# Altium schematic symbol library PFC_Stage.SchLib: 33 symbols
Pins are listed as number, name and electrical type; pins without a type are passive.

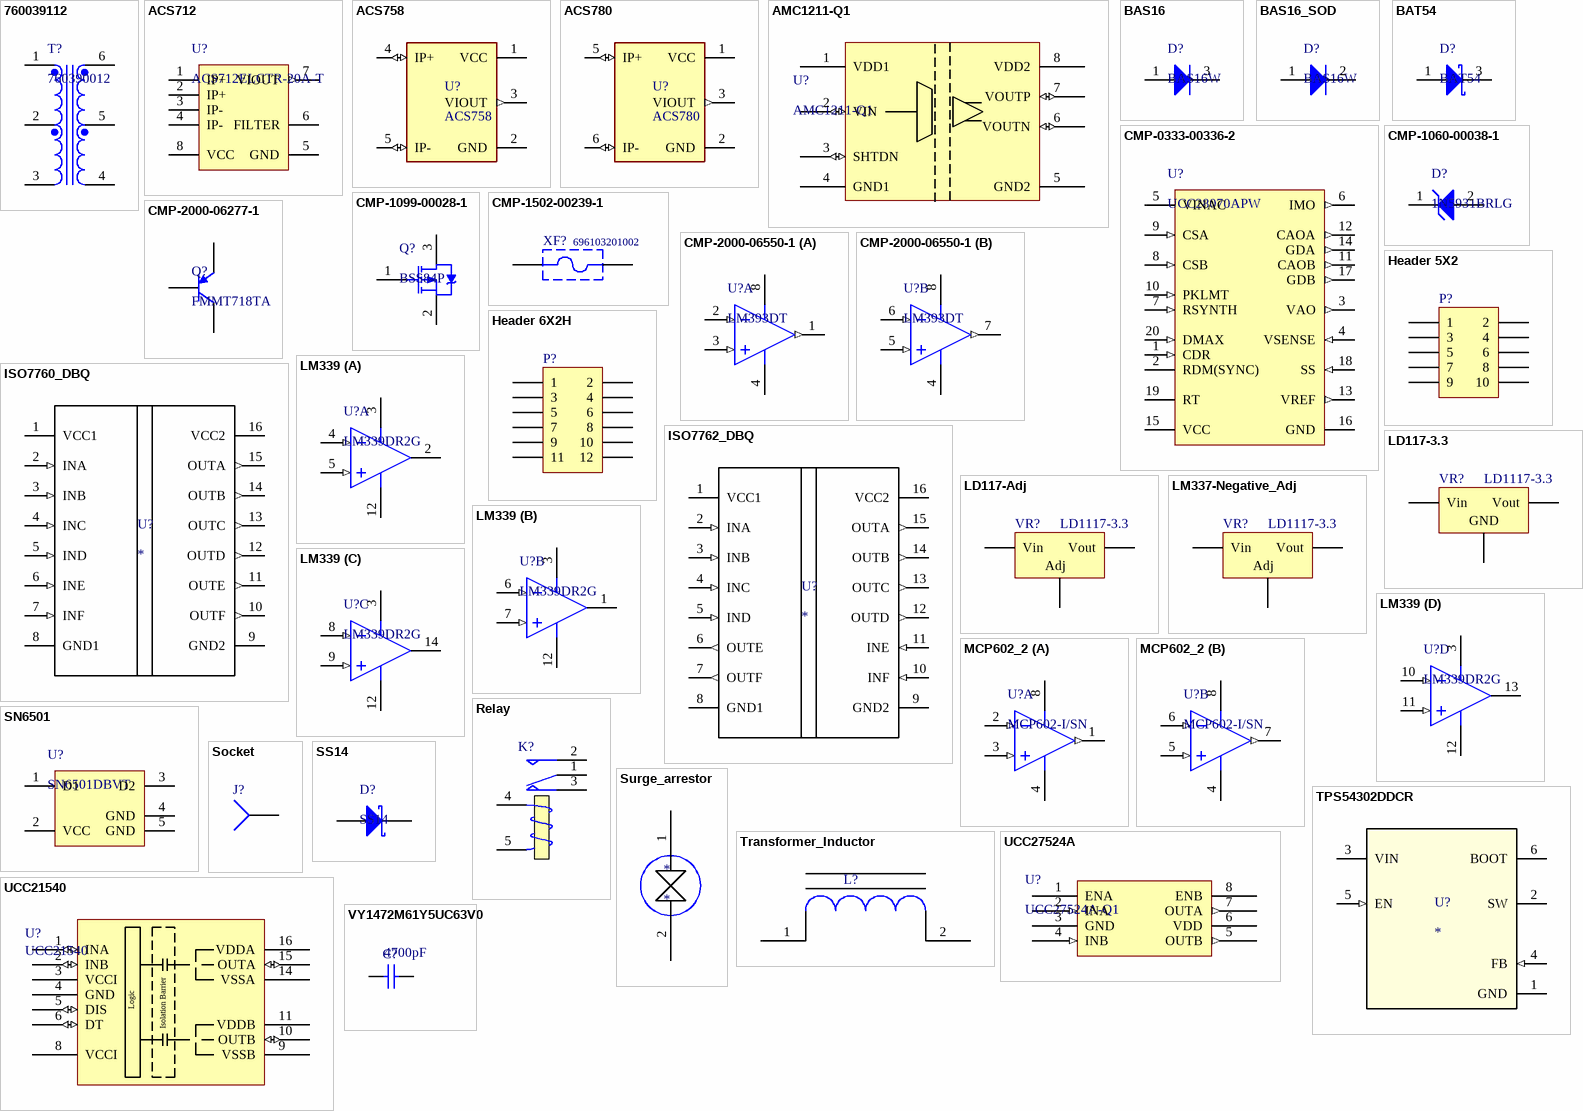
[diagram p0: symbols 760039112 to VY1472M61Y5UC63V0]

## 760039112
designator T?, comment 760390012
Transformer, 150 mA, -40 to 125 degC, 6-Pin SMD, RoHS, Tape and Reel; Manufacturer: Wuerth Elektronik; Mounting Technology: SurfaceMount; Manufacturer URL: https://www.we-online.com/; Datasheet Version: Rev. 6C, 06/2013; Datasheet URL: https://datasheet.ciiva.com/12335/760390012-221167-12335394.pdf; Package Description: 6-Pin Surface Mount Device, Body 7.14 x 6.73 mm, Pitch 2.54 mm; Package Reference: 7060390012-6
footprint WE-760390012-6_V (SMD, 6-Leads, Body 7.14x6.73mm, Pitch 2.54mm)
pins: 1, 2, 3, 4, 5, 6

## ACS712
designator U?, comment ACS712ELCTR-20A-T
Linear Current Sensor IC, 4.5 to 5.5 V Supply Voltage, 10 mA Supply Current, -40 to 85 degC, 8-Pin SOIC (LC), RoHS, Tape and Reel; Manufacturer: Allegro Microsystems; CLOAD: 10 nF Max.; ICC: 10 mA; F: 80 kHz; RLOAD: 4.7 kOhm Min.; Optimized Accuracy Range: +/- 20 A; TR: 3.5 us; Sensitivity Sens: 100 mV/A Typ.; Operating Temperature Range: -40 to 85 degC; ComponentLink2URL: http://www.allegromicro.com/~/media/Files/Datasheets/ACS712-Datasheet.ashx; ComponentLink1Description: Manufacturer URL; VCC: 4.5 to 5.5 V; Mounting Technology: Surface Mount; DatasheetVersion: Rev. 15; ComponentLink2Description: Datasheet; ComponentLink1URL: http://www.allegromicro.com/; PackageDescription: 8-Pin SOIC, Body 4.9 x 3.9 mm, Pitch 1.27 mm; PackageReference: LC-8; RoHS: TRUE; Packing: Tape and Reel; PartNumber: ACS712ELCTR-20A-T
pins: 1 IP+ "Terminals for current being sampled; fused internally", 2 IP+ "Terminals for current being sampled; fused internally", 3 IP- "Terminals for current being sampled; fused internally", 4 IP- "Terminals for current being sampled; fused internally", 5 GND (power) "Signal ground terminal", 6 FILTER "Terminal for external capacitor that sets bandwidth", 7 VIOUT (out) "Analog output signal", 8 VCC (power) "Device power supply terminal"

## ACS758
designator U?
Current Sensor 50A 1 Channel Hall Effect, Open Loop Unidirectional 5-CB Formed Leads, PFF; MF: Allegro MicroSystems LLC; Package: 5-CB-5 Allegro MicroSystems LLC; MP: ACS758; Availability: Unavailable; Price: None; Value: *; SnapEDA_Link: https://www.snapeda.com/parts/ACS758/Allegro%20MicroSystems%20LLC/view-part/226237/?ref=snap
footprint XDCR_ACS758
pins: 1 VCC (power), 2 GND (power), 3 VIOUT (out), 4 IP+ (io), 5 IP- (io)

## ACS780
designator U?
Current Sensor 50A 1 Channel Hall Effect, Open Loop Unidirectional 5-CB Formed Leads, PFF; MP: ACS758; MF: Allegro MicroSystems LLC; Package: 5-CB-5 Allegro MicroSystems LLC; Availability: Unavailable; Price: None; Value: *; SnapEDA_Link: https://www.snapeda.com/parts/ACS758/Allegro%20MicroSystems%20LLC/view-part/226237/?ref=snap
footprint *XDCR_ACS781LLRTR-100U-T
pins: 1 VCC (power), 2 GND (power), 3 VIOUT (out), 5 IP+ (io), 6 IP- (io)

## AMC1211-Q1
designator U?
footprint SOIC127P570X175_HS-9N - No Thermal (SOIC, 8-Leads, Body 4.91x3.90mm, Pitch 1.27mm, Thermal Pad 3.00x3.00mm, IPC Medium Density)
pins: 1 VDD1 (power), 2 VIN (io), 3 SHTDN (io), 4 GND1 (power), 5 GND2 (power), 6 VOUTN (io), 7 VOUTP (io), 8 VDD2 (power)

## BAS16
designator D?, comment BAS16W
Silicon Switching Diode, SOT323, Reel, Green; Manufacturer: Infineon; IR (max): 100Â nA; Configuration: Single; VBR (min): 85Â V; VR (max): 80Â V; trr (max): 4Â ns; Green: TRUE; VF (max): 1.25Â V; IF (max): 250Â mA; Mounting Technology: Surface Mount; PackageReference: SOT323; ComponentLink2URL: http://www.infineon.com/dgdl/bas16series.pdf?folderId=db3a30431400ef6801141b5844e103ea&fileId=db3a30431400ef6801141b93811b03ff; Halogen-free: TRUE; ComponentLink2Description: Datasheet; PartNumber: BAS16W; ComponentLink1Description: Manufacturer URL; ComponentLink3URL: http://www.infineon.com/dgdl/SOT323-Package_Overview.pdf?folderId=db3a30431936bc4b0119533e1dcb3c92&fileId=db3a30431936bc4b011953495f283cb1; ComponentLink1URL: http://www.infineon.com/; PackageDescription: 3-Pin Small Outline Transistor Package, 1.25 x 2 mm Body, 0.65 mm Pitch; ComponentLink3Description: Package Specification
footprint SOT95P278X110-3N (SOT23, 3-Leads, Body 2.90x2.78mm, Pitch 0.95mm, IPC Medium Density)
pins: 1 A, 3 K

## BAS16_SOD
designator D?, comment BAS16W
Silicon Switching Diode, SOT323, Reel, Green; Manufacturer: Infineon; IR (max): 100Â nA; Configuration: Single; VBR (min): 85Â V; VR (max): 80Â V; trr (max): 4Â ns; Green: TRUE; VF (max): 1.25Â V; IF (max): 250Â mA; Mounting Technology: Surface Mount; PackageReference: SOT323; ComponentLink2URL: http://www.infineon.com/dgdl/bas16series.pdf?folderId=db3a30431400ef6801141b5844e103ea&fileId=db3a30431400ef6801141b93811b03ff; Halogen-free: TRUE; ComponentLink2Description: Datasheet; PartNumber: BAS16W; ComponentLink1Description: Manufacturer URL; ComponentLink3URL: http://www.infineon.com/dgdl/SOT323-Package_Overview.pdf?folderId=db3a30431936bc4b0119533e1dcb3c92&fileId=db3a30431936bc4b011953495f283cb1; ComponentLink1URL: http://www.infineon.com/; PackageDescription: 3-Pin Small Outline Transistor Package, 1.25 x 2 mm Body, 0.65 mm Pitch; ComponentLink3Description: Package Specification
footprint SODFL250X110-2N (SODFL, 2-Leads, Body 1.30x2.50mm, IPC Medium Density)
pins: 1 A, 2 K

## BAT54
designator D?
Silicon Switching Diode, SOT323, Reel, Green; PartNumber: BAS16W; Manufacturer: Infineon; IR (max): 100Â nA; Configuration: Single; VBR (min): 85Â V; VR (max): 80Â V; trr (max): 4Â ns; Green: TRUE; VF (max): 1.25Â V; IF (max): 250Â mA; Mounting Technology: Surface Mount; PackageReference: SOT323; ComponentLink2URL: http://www.infineon.com/dgdl/bas16series.pdf?folderId=db3a30431400ef6801141b5844e103ea&fileId=db3a30431400ef6801141b93811b03ff; Halogen-free: TRUE; ComponentLink2Description: Datasheet; ComponentLink1Description: Manufacturer URL; ComponentLink3URL: http://www.infineon.com/dgdl/SOT323-Package_Overview.pdf?folderId=db3a30431936bc4b0119533e1dcb3c92&fileId=db3a30431936bc4b011953495f283cb1; ComponentLink1URL: http://www.infineon.com/; PackageDescription: 3-Pin Small Outline Transistor Package, 1.25 x 2 mm Body, 0.65 mm Pitch; ComponentLink3Description: Package Specification
footprint SOT95P278X110-3N (SOT23, 3-Leads, Body 2.90x2.78mm, Pitch 0.95mm, IPC Medium Density)
pins: 1 A, 3 K

## CMP-0333-00336-2
designator U?, comment UCC28070APW
Two-Phase Interleaved CCM PFC Controller with Extended Frequency Range (10 kHz to 300 kHz), 21 V, 20 mA Startup Current, -40 to 125 degC, 20-pin TSSOP (PW), Green (RoHS & no Sb/Br); Manufacturer: Texas Instruments; UVLO Thresholds On/Off(V): 10.2/9.2; Practical Operating Frequency(Max)(MHz): 0.3; Vref(V): 6; Average Current Mode: TRUE; Operating Supply(Max)(V): 21; Duty Cycle(Max)(%): 99; Rating: Catalog; Vref tol(%): 3; Operating Supply Current(mA): 20; PackageReference: PW0020A; PartNumber: UCC28070APW; ComponentLink1URL: http://www.ti.com/general/docs/lit/getliterature.tsp?genericPartNumber=UCC28070A&fileType=pdf; Eco-Plan: Green (RoHS & no Sb/Br); Mounting Technology: Surface Mount; PackageVersion: revG, Feb-2011; ComponentLink1Description: Datasheet; Interleaved: TRUE; Code_JEDEC: MO-153; > 750W Applications: TRUE; PackageDescription: 20-Pin Plastic Thin Small Outline Package 6.5 x 4.4 mm Body ,0.65 mm Pitch; Startup Current(mA): 20; OVP: TRUE; DatasheetVersion: SLUSAW0
footprint TSOP65P640X120_HS-21N (TSOP, 20-Leads, Body 6.50x4.40mm, Pitch 0.65mm, Thermal Pad 5.00x2.00mm, IPC Medium Density)
pins: 1 CDR (in) "Dither Rate Capacitor. Frequency-dithering timing pin.An external capacitor to GND programs the rate fo oscillator dither.Connect the CDR pin to the VREF pin to disable dithering.", 2 RDM(SYNC) "Dither Magnitude Resistor. Frequency-dithering magnitude and external synchronization pin. An external resistor to GND programs the magnitude of oscillator frequency dither.When frequency dithering is disabled (CDR > 5 (See Datasheet)", 3 VAO (out) "Voltage Amplifier Output. Output of transconductance voltage error amplifier. Internally connected to Multiplier input and Zero-Power comparator. Connect the voltage regulation loop compensation components between this pin (See Datasheet)", 4 VSENSE (in) "Output Voltage Sense. Internally connected to the inverting input of the transconductance voltage error amplifier in addition to the positive terminal of the Current Synthesis difference amplifer.Also connected to the (See Datasheet)", 5 VINAC (power) "Scaled AC Line Input Voltage. Internally connected to the Multiplier and negative terminal of the Current Synthesis difference amplifier. Connect a resistor-divider network between VIN, VINAC, and GND identical to the PFC (See Datasheet)", 6 IMO (out) "Multiplier Current Output. Connect a resistor between this pin and GND to set the multiplier gain.", 7 RSYNTH (in) "Current Synthesis Down-Slope Programming. Connect a resistor between this pin and GND to set the magnitude of the current synthesizer down-slope. Connecting RSYNTH to VREF will disable current synthesis and connect CSA and (See Datasheet)", 8 CSB (in) "Phase B Current Sense Input During the on-time of GDB,CSB is internally connected to the inverting input of Phase B'S current amplifier through the current synthesis stage.", 9 CSA (in) "Phase A Current Sense Input During the on-time of GDA,CSA is internally connected to the inverting input of Phase A'S current amplifier through the current synthesis stage.", 10 PKLMT (in) "Peak Current Limit Programming. Connect a resistor-divider network between VREF and this pin to set the voltage threshold of the cycle-by-cycle peak current limiting comparators. Allows adjustment for desired deltaILB.", 11 CAOB (out) "Phase B Current Amplifier Output. Output of phase B’s transconductance current amplifier.Internally connected to the inverting input of phase B's PWM comparator for trailing-edge modulation .Connect the current regulation (See Datasheet)", 12 CAOA (out) "Phase A Current Amplifier Output. Output of phase A’s transconductance current amplifier.Internally connected to the inverting input of phase A's PWM comparator for trailing-edge modulation .Connect the current regulation (See Datasheet)", 13 VREF (out) "6-V Reference Voltage and Internal Bias Voltage.Connect a 0.1-uF ceramic bypass capacitor as close as possible to this pin and GND.", 14 GDA (out) "Phase A’s Gate Drive. This limited-current output is intended to connect to a separate gate-drive  device suitable for driving the Phase A switching component(s). The output voltage is typically clamped to 13.5 V.", 15 VCC (power) "Bias Voltage Input. Connect a 0.1-uF ceramic bypass capacitor as close as possible to this pin and GND.", 16 GND (power) "Device Ground Reference. Connect all compensation and programming resistor and capacitor networks to this pin. Connect this pin to the system through a separate trace for high-current noise isolation.", 17 GDB (out) "Phase B’s Gate Drive. This limited-current output is intended to connect to a separate gate- drivedevice suitable for driving the Phase B switching component(s). The output voltage is typically clamped to 13.5 V.", 18 SS (in) "Soft-Start and External Fault Interface. Connect a capacitor to GND on this pin to set the softstart slew rate based on an internally-fixed 10-uA current source. The regulation reference voltage for VSENSE is clamped to VSS (See Datasheet)", 19 RT "Timing Resistor.Oscillator frequency programming pin. A resistor to GND sets the running frequency of the internal oscillator.", 20 DMAX (in) "Maximum Duty-Cycle Resistor.Maximum PWM duty-cycle programming pin.A resister to GND sets the PWM maximum duty-cycle based on the ratio of RDMX/RRT."

## CMP-1060-00038-1
designator D?, comment 1N5931BRLG
3 W Zener Voltage Regulator, 2-Pin Axial_Lead, Pb-Free, Tape and Reel; Manufacturer: On Semiconductor; VZ Typ (V): 18; DatasheetVersion: Rev. 5; PackageVersion: Rev. U, 02/2005; ComponentLink1URL: http://www.onsemi.com/; PartNumber: 1N5931BRLG; ComponentLink3URL: http://www.onsemi.cn/pub_link/Collateral/59-10.PDF; RoHS: Pb-Free; Packing: Tape and Reel; ComponentLink3Description: Package Specification; ComponentLink1Description: Manufacturer URL; PackageReference: AXIAL_LEAD-2-59-10; PackageDescription: 2-Pin, Axial Lead, Diameter 2.35 mm; ComponentLink2URL: http://www.onsemi.cn/pub_link/Collateral/1N5913B-D.PDF; ComponentLink2Description: Datasheet; Mounting Technology: Through Hole
footprint ONSC-AXIAL_LEAD-2-59-10_P (AXIAL, 2-Leads, Diameter 2.35mm)
pins: 1 K, 2 A

## CMP-1099-00028-1
designator Q?, comment BSS84P
P-Channel SIPMOS Small-Signal-Transistor, -60 V VDS, -0.17 A ID, -55 to 150 degC, PG-SOT23, Reel, Green; Manufacturer: Infineon; VGS(th) (max): -2Â V; VGS(th) (min): -1Â V; VDS (max): -60Â V; Rth: 350Â K/W; Pto t (max): 0.36Â W; ID (max): -0.17Â A; IDpuls (max): -0.68Â A; RDS (on) (max) (@4.5V): 12,000Â mOhm; QG: 1Â nC; Green: TRUE; RDS (on) (max): 8,000Â mOhm; ComponentLink3URL: http://www.infineon.com/dgdl/SOT23-Package_Overview.pdf?folderId=db3a30431936bc4b0119532290053c66&fileId=db3a30431936bc4b0119533468123c85; ComponentLink3Description: Package Specification; Packing: Reel; PartNumber: BSS84P; ComponentLink2Description: Datasheet; Mounting Technology: Surface Mount; ComponentLink2URL: http://www.infineon.com/dgdl/BSS84P_Rev2.7%5B1%5D.pdf?folderId=db3a304314dca38901154a72e3951a65&fileId=db3a304330f68606013118ac7a9b4549; PackageReference: PG-SOT23; ComponentLink1URL: http://www.infineon.com/; PackageVersion: Apr-08; ComponentLink1Description: Manufacturer URL; PackageDescription: 3-Pin Small Outline Transistor Package, 2.9 x 1.3 mm Body, 0.95 mm Pitch; Halogen-free: TRUE; DatasheetVersion: Rev. 2.7
footprint SOT95P278X110-3N (SOT23, 3-Leads, Body 2.90x2.78mm, Pitch 0.95mm, IPC Medium Density)
pins: 1 GATE, 2 SOURCE, 3 DRAIN

## CMP-1502-00239-1
designator XF?, comment 696103201002
WR-FSH Fuse Holder Blocks Fuse Holder Blocks Clip Cover for PCB - THR Version; Manufacturer: Wurth Elektronik; Fuse Size: 5x20mm; Package Reference: 696103201002; Operating Temperature: -30to120degC; Part Number: 696103201002; Packaging: Box; Datasheet URL: https://katalog.we-online.de/em/datasheet/696103201002.pdf; Publisher: WurthElektronik; Mounting Technology: THR; Manufacturer URL: http://www.we-online.de
footprint 696103201002 (FUSEHOLDER BLOCKS - PCB - CLIP COVER - THR)
pins: 1, 2

## CMP-2000-06277-1
designator Q?, comment FMMT718TA
PNP Silicon Low Saturation Transistor, 20 V, -55 to 150 degC, 3-Pin SOT23, RoHS, Tape and Reel; Manufacturer: Diodes Inc; Current Ic Continuous a Max: 1.5A; DC Current Gain hFE: 475; Current Ic hFE: 100mA; No. of Pins: 3; Turn On Time: 40ns; Voltage Vcbo: 20V; SVHC: NoSVHC(18-Jun-2012); Reel Quantity: 3000; Transistor Case Style: SOT-23; No. of Transistors: 1; SMD Marking: 718; Collector Emitter Voltage Vces: 220mV; Turn Off Time: 670ns; Power Dissipation Pd: 625mW; Transition Frequency Typ ft: 180MHz; Device Marking: MT718; Hfe Min: 300; Gain Bandwidth ft Min: 150MHz; Datasheet URL: http://www.diodes.com/_files/datasheets/FMMT718.pdf; Datasheet Version: Rev. 4-2, 10/2012; Termination Type: SMD; Package Description: 3-Pin Small Outline Transistor, Body 2.9 x 1.3 mm, Pitch 0.96 mm; Manufacturer URL: http://www.diodes.com/; Package Reference: SOT23-3; Package / Case: SOT-23; Continuous Collector Current Ic Max: 1.5A; Collector Emitter Voltage V(br)ceo: 20V; Operating Temperature Range: -55°Cto+150°C; Mounting Technology: SurfaceMount; DC Collector Current: 1.5A; Gain Bandwidth ft Typ: 180MHz; Tape Width: 8mm; Power Dissipation Ptot Max: 625mW; Transistor Polarity: PNP
footprint DIOD-SOT23-3_D_V (SOT23, 3-Leads, Body 3x1.40mm, Pitch 0.95mm)
pins: 1 B, 2 E, 3 C

## CMP-2000-06550-1
designator U?, comment LM393DT
Low-Power, Dual-Voltage Comparator, 2 to 36 V, 0 to 70 degC, 8-Pin SOIC (SO), RoHS, Tape and Reel; Manufacturer: STMicroelectronics; Voltage - Supply, Single/Dual (±): 2V~36V,±1V~18V; Current - Input Bias (Max): 0.25µA@5V; Number of Elements: 2; Current - Output (Typ): 18mA@5V; Other Names: 497-1593-2; Voltage - Input Offset (Max): 5mV@30V; Output Type: CMOS,DTL,ECL,MOS,Open-Collector,TTL; EDA / CAD Models: DownloadfromAcceleratedDesigns; Other Related Documents: LM393ViewAllSpecificationsLM393ViewAllSpecifications; Online Catalog: Comparators-2elements; Current - Quiescent (Max): 2.5mA; Standard Package: 2,500; Manufacturer URL: http://www.st.com/; Package Description: 8-Pin Small Outline Integrated Circuit, Body 4.9 x 3.9 mm, Pitch 1.27 mm; Packaging: Tape&Reel(TR); Datasheet Version: Rev. 15, 02/2016; Category: IntegratedCircuits(ICs); Operating Temperature: 0°C~70°C; Mounting Type: SurfaceMount; Supplier Device Package: 8-SO; Datasheet URL: http://www.st.com/content/ccc/resource/technical/document/datasheet/group1/b4/cc/cf/13/18/28/44/f5/CD00000465/files/CD00000465.pdf/jcr:content/translations/en.CD00000465.pdf; Family: Linear-Comparators; Mounting Technology: SurfaceMount; Type: GeneralPurpose; Package Reference: SO-8; Package / Case: 8-SOIC(0.154",3.90mmWidth)
footprint SOIC127P570X175_HS-9N - No Thermal (SOIC, 8-Leads, Body 4.91x3.90mm, Pitch 1.27mm, Thermal Pad 3.00x3.00mm, IPC Medium Density)
pins on every part: 4 VCC- (power), 8 VCC+ (power)
part A pins: 1 OUT1 (out), 2 IN1- (in), 3 IN1+ (in)
part B pins: 5 IN2+ (in), 6 IN2- (in), 7 OUT2 (out)

## Header 5X2
designator P?
Header, 5-Pin, Dual row; LatestRevisionDate: 17-Jul-2002; LatestRevisionNote: Re-released for DXP Platform.; Publisher: Altium Limited
footprint Stackable_5_2 (Pin Header, pitch 2.54 mm, THT, Vertical, dual row, 10p)
pins: 1, 2, 3, 4, 5, 6, 7, 8, 9, 10

## Header 6X2H
designator P?
Header, 6-Pin, Dual row, Right Angle; LatestRevisionDate: 17-Jul-2002; LatestRevisionNote: Re-released for DXP Platform.; Publisher: Altium Limited
footprint Stackable-20mm (Pin Header, pitch 2.54 mm, THT, Vertical, dual row, 12p)
pins: 1, 2, 3, 4, 5, 6, 7, 8, 9, 10, 11, 12

## ISO7760_DBQ
designator U?
No Description Available; Manufacturer: Texas Instruments; PartNumber: ISO7760DBQR; RefDes: RefDes; Type: DEV; Value: Value; Copyright: Copyright (C) 2018 Accelerated Designs. All rights reserved
footprint TSOP65P640X120_HS-21N (TSOP, 20-Leads, Body 6.50x4.40mm, Pitch 0.65mm, Thermal Pad 5.00x2.00mm, IPC Medium Density)
pins: 1 VCC1 (power), 2 INA (in), 3 INB (in), 4 INC (in), 5 IND (in), 6 INE (in), 7 INF (in), 8 GND1 (power), 9 GND2 (power), 10 OUTF (out), 11 OUTE (out), 12 OUTD (out), 13 OUTC (out), 14 OUTB (out), 15 OUTA (out), 16 VCC2 (power)

## ISO7762_DBQ
designator U?
No Description Available; PartNumber: ISO7762DWR; Manufacturer: Texas Instruments; RefDes: RefDes; Type: DEV; Value: Value; Copyright: Copyright (C) 2018 Accelerated Designs. All rights reserved
footprint TSOP65P640X120_HS-21N (TSOP, 20-Leads, Body 6.50x4.40mm, Pitch 0.65mm, Thermal Pad 5.00x2.00mm, IPC Medium Density)
pins: 1 VCC1 (power), 2 INA (in), 3 INB (in), 4 INC (in), 5 IND (in), 6 OUTE (out), 7 OUTF (out), 8 GND1 (power), 9 GND2 (power), 10 INF (in), 11 INE (in), 12 OUTD (out), 13 OUTC (out), 14 OUTB (out), 15 OUTA (out), 16 VCC2 (power)

## LD117-3.3
designator VR?, comment LD1117-3.3
Voltage Regulator; Published: 24-Mar-1999; LatestRevisionDate: 29-May-2009; LatestRevisionNote: IPC-7351 Footprint Added.; PackageReference: D2PAK; Publisher: Altium Limited; PackageDescription: 3-Pin Transistor Outline Package 2.54 mm Pitch, 15.1 mm Lead Span
footprint SOT230P700X180-4N (SOT223, 4-Leads, Body 6.50x7.00mm (avg), Pitch 2.30mm, IPC Medium Density)
pins: 1 GND, 2 Vout, 3 Vin

## LD117-Adj
designator VR?, comment LD1117-3.3
Voltage Regulator; Published: 24-Mar-1999; LatestRevisionDate: 29-May-2009; LatestRevisionNote: IPC-7351 Footprint Added.; PackageReference: D2PAK; Publisher: Altium Limited; PackageDescription: 3-Pin Transistor Outline Package 2.54 mm Pitch, 15.1 mm Lead Span
footprint SOT230P700X180-4N (SOT223, 4-Leads, Body 6.50x7.00mm (avg), Pitch 2.30mm, IPC Medium Density)
pins: 1 Adj, 2 Vout, 3 Vin

## LM337-Negative_Adj
designator VR?, comment LD1117-3.3
Voltage Regulator; Published: 24-Mar-1999; LatestRevisionDate: 29-May-2009; LatestRevisionNote: IPC-7351 Footprint Added.; PackageReference: D2PAK; Publisher: Altium Limited; PackageDescription: 3-Pin Transistor Outline Package 2.54 mm Pitch, 15.1 mm Lead Span
footprint SOT230P700X180-4N (SOT223, 4-Leads, Body 6.50x7.00mm (avg), Pitch 2.30mm, IPC Medium Density)
pins: 1 Adj, 2 Vin, 3 Vout

## LM339
designator U?, comment LM339DR2G
Single Supply Quad Comparators, 0 to 70 degC, 14-Pin SOIC, Pb-Free, Tape and Reel; Manufacturer: On Semiconductor; IO Typ (mA): 16; ComponentLink3URL: http://www.onsemi.com/pub_link/Collateral/751A-03.PDF; RoHS: TRUE; Packing: Tape and Reel; ComponentLink2Description: Datasheet; ComponentLink2URL: http://www.onsemi.com/pub_link/Collateral/LM339-D.PDF; ComponentLink1Description: Manufacturer URL; PackageVersion: Rev. K, 05/2011; DatasheetVersion: Rev. 20; PackageReference: SOIC-14-751A-03; ComponentLink1URL: http://www.onsemi.com/; PartNumber: LM339DR2G; PackageDescription: 14-Pin Small Outline Integrated Circuit, Body 8.65 x 3.9 mm, Pitch 1.27 mm; ComponentLink3Description: Package Specification; Mounting Technology: Surface Mount
footprint ONSC-SOIC-14-751A-03_V (SOIC, 14-Leads, Body 8.75x4mm, Pitch 1.27mm)
pins on every part: 3 VCC (power), 12 GND (power)
part A pins: 2 OUT1 (oc), 4 IN1- (in), 5 IN1+ (in)
part B pins: 1 OUT2 (oc), 6 IN2- (in), 7 IN2+ (in)
part C pins: 8 IN3- (in), 9 IN3+ (in), 14 OUT3 (oc)
part D pins: 10 IN4- (in), 11 IN4+ (in), 13 OUT4 (oc)

## MCP602_2
designator U?, comment MCP602-I/SN
2.7V to 6.0V Single Supply CMOS Operational Amplifier, 8-Pin SOIC, Industrial Temperature; ComponentLink1URL: http://www.microchip.com/; ComponentLink1Description: Manufacturer URL; RevisionNote: URLs added.; PackageReference: SOIC-SN8; ComponentLink2URL: http://ww1.microchip.com/downloads/en/DeviceDoc/21314g.pdf; ComponentLink3URL: http://www.microchip.com/stellent/groups/techpub_sg/documents/packagingspec/en012702.pdf; PackageDescription: 8-Lead Plastic Small Outline (SN) - Narrow, 3.90mm Body [SOIC]; DatasheetVersion: revG, Dec-2007; ComponentLink2Description: Datasheet; ComponentLink3Description: Package Specification; Code_IPC: SOIC127P600-8; Code_JEDEC: MS-012; PackageVersion: revBB, Aug-2009
footprint SOIC127P570X175_HS-9N - No Thermal (SOIC, 8-Leads, Body 4.91x3.90mm, Pitch 1.27mm, Thermal Pad 3.00x3.00mm, IPC Medium Density)
pins on every part: 4 VSS (power), 8 VDD (power)
part A pins: 1 VOUTA (out), 2 VINA- (in), 3 VINA+ (in)
part B pins: 5 VINB+ (in), 6 VINB- (in), 7 VOUTB (out)

## Relay
designator K?
SPDT Relay; Published: 8-Jun-2000; LatestRevisionDate: 17-Jul-2002; LatestRevisionNote: Re-released for DXP Platform.; PackageReference: MODULE5B; Publisher: Altium Limited
footprint Relay_T9GS5L14-5
footprint Relay_OMRON_5V
pins: 1 COM, 2 COM, 3 NO, 4 T1, 5 T2

## SN6501
designator U?, comment SN6501DBVT
Transformer Driver for Isolated Power Supplies, 0.15 to 0.35 A, 3 to 5.5 V, -40 to 125 degC, 5-Pin SOT-23 (DBV), Green (RoHS & no Sb/Br), Tape and Reel; Manufacturer: TexasInstruments; Package Version: 4073253-4/N, 12/2014; Minimum Input Voltage: 3V; Switching Frequency: 300to620kHz; Output Voltage: 0to11V; Number of Outputs: 1; Maximum Input Voltage: 5.5V; Maximum Output Current: 0.35A; Type: Non-Inverting|Inverting|StepUp|StepDown; Package: 5SOT-23; Package URL: http://www.ti.com/lit/ml/mpds018l/mpds018l.pdf; Category: DCtoDCConverter; Package Reference: DBV5; Datasheet Version: Rev. G, 09/2014; Packaging: Tape&Reel; Operating Temperature: -40to125°C; Manufacturer URL: http://www.ti.com/; Mounting: SurfaceMount; Rad Hard: No; Package Description: 5-Pin Small Outline Transistor, Body 2.9 x 1.6 mm, Pitch 0.95 mm; Datasheet URL: http://www.ti.com/lit/ds/symlink/sn6501.pdf; Mounting Technology: SurfaceMount
footprint SOT95P278X110-5N (SOT23, 5-Leads, Body 2.90x2.78mm, Pitch 0.95mm, IPC Medium Density)
pins: 1 D1 (oc) "Open Drain output 1. Connect this pin to one end of the transformer primary side", 2 VCC (power) "Supply voltage input. Connect this pin to the center-tap of the transformer primary side. Buffer this voltage with a 1 uF to 10 uF ceramic capacitor", 3 D2 (oc) "Open Drain output 2. Connect this pin to the other end of the transformer primary side.", 4 GND (power) "Device ground. Connect this pin to board ground.", 5 GND (power) "Device ground. Connect this pin to board ground."

## Socket
designator J?
Socket; LatestRevisionDate: 17-Jul-2002; LatestRevisionNote: Re-released for DXP Platform.; Publisher: Altium Limited
footprint Mounting_hole_3mm
pins: 1

## SS14
designator D?
Schottky Rectifier, 1.1 W, -65 to 125 degC, 2-Pin SMD, RoHS, Tape and Reel; Manufacturer: Fairchild; Configuration: SINGLE; Diode Element Material: SILICON; Power Dissipation Limit-Max (W): 1.1; Additional Feature: FREEWHEELINGDIODE; Signal Diode Type: SIGNALDIODE; Number of Elements: 1; JEDEC-95 Code: DO-214AC; Rep Pk Reverse Voltage-Max (V): 40; Package Body Material: PLASTIC/EPOXY; CAGE Code: 1HBD3,07933,59621,7D893; Peak Reflow Temperature (Cel): 260; Package Shape: RECTANGULAR; Manufacturer URL: https://www.fairchildsemi.com/; JESD-97 Code: e3; Package Reference: DO-214AC-2; RoHS Compliant: YES; Package Description: 2-Pin Surface Mount Device, Body 4.375 x 2.725 mm; Technology: SCHOTTKY; Surface Mount: YES; Datasheet URL: http://www.onlinecomponents.com/datasheet/ss14.aspx?p=11369800; Terminal Form: CBEND; Package Style: SMALLOUTLINE; Number of Terminals: 2; JESD-30 Code: R-PDSO-C2; Average Forward Current-Max (A): 1; Terminal Finish: MATTETIN; Datasheet Version: Oct-13; Terminal Position: DUAL; Package URL: https://www.fairchildsemi.com/package-drawings/DO/DO214AC.pdf; Moisture Sensitivity Level: 1; Lead Free: YES
footprint DIOM4226X22N (Molded Diode, 2-Leads, Body 4.25x2.64mm, IPC Medium Density)
pins: 1 K, 2 A

## Surge_arrestor
designator *
pins: 1 0, 2 1

## TPS54302DDCR
designator U?
Imported; PartNumber: TPS54302DDC; Manufacturer: Texas Instruments; Manufacturer_Part_Number: TPS54302DDCR; RefDes: RefDes; TYPE: TYPE; Value: Value; Manufacturer_Name: Texas Instruments
footprint SOT95P278X110-6N (SOT23, 6-Leads, Body 2.90x2.78mm, Pitch 0.95mm, IPC Medium Density)
pins: 1 GND (power), 2 SW (power), 3 VIN (power), 4 FB (in), 5 EN (in), 6 BOOT (power)

## Transformer_Inductor
designator L?  (value not drawn)
footprint PQ4040 (Vertica_Bobbin)
footprint PFC_Toroid_MPP (Vertica_Bobbin)
pins: 1, 2

## UCC21540
designator U?
pins: 1 INA (io), 2 INB (io), 3 VCCI (power), 4 GND (power), 5 DIS (io), 6 DT (io), 8 VCCI (power), 9 VSSB (power), 10 OUTB (io), 11 VDDB (power), 14 VSSA (power), 15 OUTA (io), 16 VDDA (power)
text: Logic; Isolation Barrier

## UCC27524A
designator U?, comment UCC27524A-Q1
footprint SOIC127P570X175_HS-9N - No Thermal (SOIC, 8-Leads, Body 4.91x3.90mm, Pitch 1.27mm, Thermal Pad 3.00x3.00mm, IPC Medium Density)
pins: 1 ENA, 2 INA (in), 3 GND (power), 4 INB (in), 5 OUTB (out), 6 VDD (power), 7 OUTA (out), 8 ENB

## VY1472M61Y5UC63V0
designator C?  value 4700pF
Capacitor; Published: 8-Jun-2000; LatestRevisionDate: 17-Jul-2002; LatestRevisionNote: Re-released for DXP Platform.; PackageReference: RAD-0.3; Publisher: Altium Limited; PackageDescription: Radial Cap, Thru-Hole; 2 Leads; 0.3 in Pin Spacing
footprint VY1472M61Y5UC63V0
pins: 1, 2